# EAGLE library part PINHD-1X10 (library pinhead)
PIN HEADER
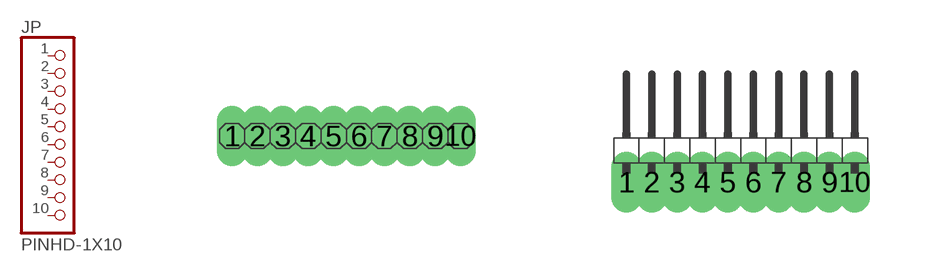
[diagram p4: symbol with the pads of 1X10; footprints 1X10, 1X10/90]

Designator prefix JP

## PINHD-1X10  [1X10]
1  1  pas
2  2  pas
3  3  pas
4  4  pas
5  5  pas
6  6  pas
7  7  pas
8  8  pas
9  9  pas
10  10  pas

## PINHD-1X10/90  [1X10/90]
Pads as for 1X10

## Footprint 1X10 (pad centres in mm)
PIN HEADER
drill 0.254 long: 1 -2.857,0; 2 -2.223,0; 3 -1.587,0; 4 -0.953,0; 5 -0.318,0; 6 0.318,0; 7 0.953,0; 8 1.587,0; 9 2.223,0; 10 2.857,0

## Footprint 1X10/90 (pad centres in mm)
PIN HEADER
drill 0.254 long: 1 -2.857,-0.953; 2 -2.223,-0.953; 3 -1.587,-0.953; 4 -0.953,-0.953; 5 -0.318,-0.953; 6 0.318,-0.953; 7 0.953,-0.953; 8 1.587,-0.953; 9 2.223,-0.953; 10 2.857,-0.953